# Altium integrated library CBR04C809B5GAC.IntLib: 1 symbol
Pins are listed as number, name and electrical type; pins without a type are passive.

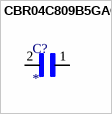
[diagram p0: symbol CBR04C809B5GAC]

## CBR04C809B5GAC
designator C?
CAP CER 8PF 50V NP0 0402; MP: CBR04C809B5GAC; Package: None; Price: None; Value: *; Availability: Unavailable
footprint CAPC1005X55N
pins: 1, 2